# EAGLE library part ESP-12S (library dawidkulpa_modules)
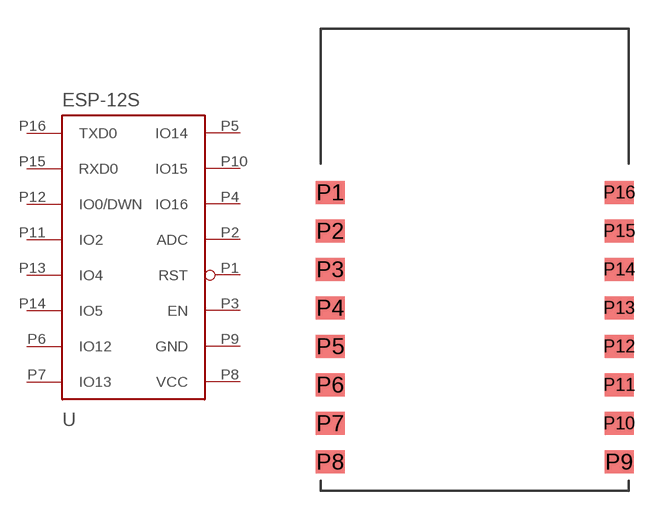
[diagram p4: symbol with the pads of ESP-12S; footprint ESP-12S]

Designator prefix -

## ESP-12S  [ESP-12S]
P1  RST
P2  ADC
P3  EN
P4  IO16
P5  IO14
P6  IO12
P7  IO13
P8  VCC  sup
P9  GND  sup
P10  IO15
P11  IO2
P12  IO0/DWN
P13  IO4
P14  IO5
P15  RXD0
P16  TXD0

## Footprint ESP-12S (pad centres in mm)
smd 1.5 x 1.2: P1 -7.5,7.5; P2 -7.5,5.5; P3 -7.5,3.5; P4 -7.5,1.5; P5 -7.5,-0.5; P6 -7.5,-2.5; P7 -7.5,-4.5; P8 -7.5,-6.5; P9 7.5,-6.5; P10 7.5,-4.5; P11 7.5,-2.5; P12 7.5,-0.5; P13 7.5,1.5; P14 7.5,3.5; P15 7.5,5.5; P16 7.5,7.5